# EAGLE library part TPS61088RHLT (library My_Library)
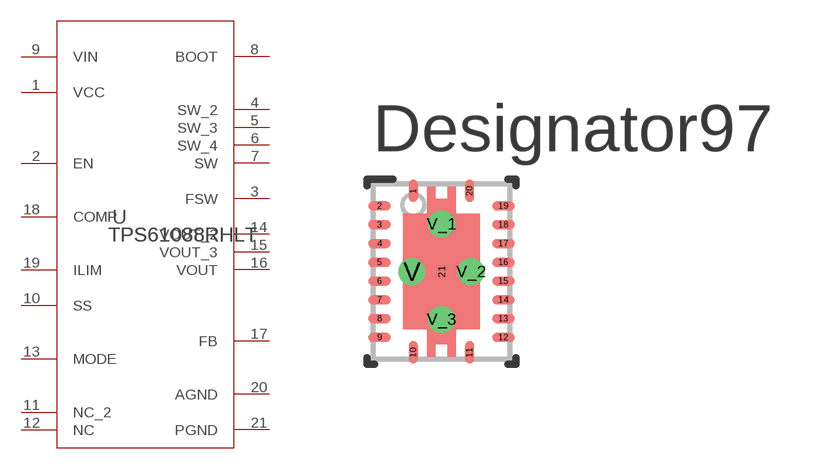
[diagram p28: symbol with the pads of RHL0020A; footprint RHL0020A]

Designator prefix U

## TPS61088RHLT (COPYRIGHT: Copyright (C) 2025 Ultra Librarian. All rights reserved.; MANUFACTURER_PART_NUMBER: TPS61088RHLT; MFR_NAME: Texas Instruments; REFDES: RefDes; TYPE: TYPE)  [RHL0020A]
1  VCC  pwr
2  EN  in
3  FSW  in
4  SW_2  pwr
5  SW_3  pwr
6  SW_4  pwr
7  SW  pwr
8  BOOT  pwr
9  VIN  pwr
10  SS  in
11  NC_2  pas
12  NC  pas
13  MODE  in
14  VOUT_2  pwr
15  VOUT_3  pwr
16  VOUT  pwr
17  FB  in
18  COMP  out
19  ILIM  in
20  AGND  pwr
21  PGND  pwr

## Footprint RHL0020A (pad centres in mm)
smd 0.24 x 0.6: 1 -0.75,2.15; 10 -0.75,-2.15; 11 0.75,-2.15; 20 0.75,2.15
smd 0.6 x 0.24: 2 -1.65,1.75; 3 -1.65,1.25; 4 -1.65,0.75; 5 -1.65,0.25; 6 -1.65,-0.25; 7 -1.65,-0.75; 8 -1.65,-1.25; 9 -1.65,-1.75; 12 1.65,-1.75; 13 1.65,-1.25; 14 1.65,-0.75; 15 1.65,-0.25; 16 1.65,0.25; 17 1.65,0.75; 18 1.65,1.25; 19 1.65,1.75
smd 0.3 x 0.3: 21 0,0
drill 0.203 pad 0.508: V -0.787,0; V_1 0,1.27; V_2 0.787,0; V_3 0,-1.27